# Altium footprint library LPH_VERT.RECEPT._ASSY_4PX24S.PcbLib: 1 footprints
Each footprint in its own frame and in the unit in brackets; x right, y up, seen from the top. Pads: shape width x height; smd on the part's side, far side on the other; paste and mask are expansions set on the pad; w line width, h text height; cw(c..) or ccw(c..) is an arc to the next point about the centre after c.
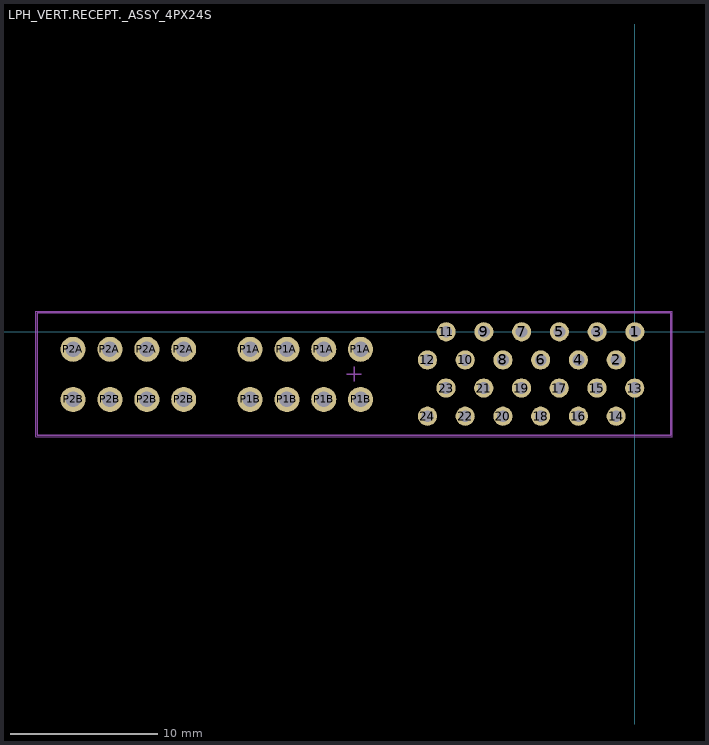
[diagram p0: the footprint, top view; thin cyan lines are the x and y axes]

## LPH_VERT.RECEPT._ASSY_4PX24S [mm]
pads (40):
  round 1.3 hole 0.8 unplated: 1(0,0) 2(-1.27,-1.91) 3(-2.56,0) 4(-3.83,-1.91) 5(-5.12,0) 6(-6.39,-1.91) 7(-7.68,0) 8(-8.95,-1.91) 9(-10.24,0) 10(-11.51,-1.91) 11(-12.8,0) 12(-14.07,-1.91) 13(-0.01,-3.82) 14(-1.27,-5.73) 15(-2.57,-3.82) 16(-3.83,-5.73) 17(-5.13,-3.82) 18(-6.39,-5.73) 19(-7.69,-3.82) 20(-8.95,-5.73) 21(-10.25,-3.82) 22(-11.51,-5.73) 23(-12.81,-3.82) 24(-14.07,-5.73)
  round 1.7 hole 1.05 unplated: P1A(-26.1,-1.19) P1A(-23.6,-1.19) P1A(-21.1,-1.19) P1A(-18.6,-1.19) P1B(-26.1,-4.59) P1B(-23.6,-4.59) P1B(-21.1,-4.59) P1B(-18.6,-4.59) P2A(-38.1,-1.19) P2A(-35.6,-1.19) P2A(-33.1,-1.19) P2A(-30.6,-1.19) P2B(-38.1,-4.59) P2B(-35.6,-4.59) P2B(-33.1,-4.59) P2B(-30.6,-4.59)
Mechanical 13:
  lines w0.1: -40.53,-7.03 2.43,-7.03 2.43,1.3 -40.53,1.3 -40.53,-7.03
Mechanical 15:
  lines w0.05: -40.63,-7.13 -40.63,1.4 2.53,1.4 2.53,-7.13 -40.63,-7.13
  lines w0.1: -19.55,-2.865 -18.55,-2.865 ; -19.05,-3.365 -19.05,-2.365
3D body "461144241.stp": height 15.22, standoff -2.57, extent -40.54,-7.03 2.42,1.3